# Altium footprint library SOT.PcbLib: 3 footprints
Each footprint in its own frame and in the unit in brackets; x right, y up, seen from the top. Pads: shape width x height; smd on the part's side, far side on the other; paste and mask are expansions set on the pad; w line width, h text height; cw(c..) or ccw(c..) is an arc to the next point about the centre after c.
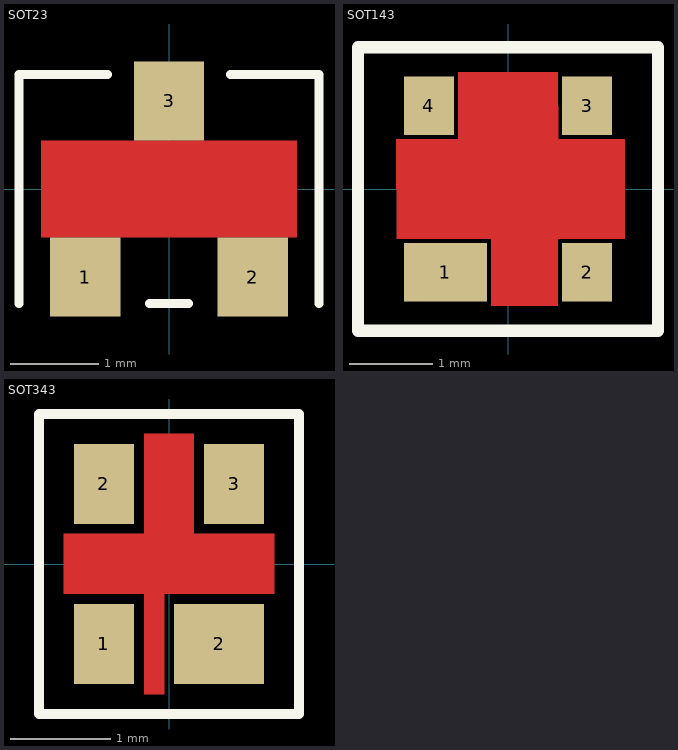
[diagram p0: the footprints below, top view; thin cyan lines are the x and y axes]

## SOT23 [mm]
pads (3):
  rect 0.8x0.9 smd: 1(-0.95,-1) 2(0.95,-1) 3(0,1)
Top Layer:
  pour cut-out: -1.45,0.55 1.45,0.55 1.45,-0.55 -1.45,-0.55
Top Overlay:
  lines w0.1: -1.704,-1.3 -1.704,1.3 -0.7,1.3 ; -0.225,-1.3 0,-1.3 0.225,-1.3 ; 0.7,1.3 1.704,1.3 1.704,-1.3
3D body "SOT23-3.step": height 1.1, standoff 0, extent -1.499,-1.25 1.499,1.25

## SOT143 [mm]
pads (4):
  rect 1x0.7 smd: 1(-0.75,-1)
  rect 0.6x0.7 smd: 2(0.95,-1) 3(0.95,1) 4(-0.95,1)
Top Layer:
  pour cut-out: -0.2,-0.6 -1.333,-0.6 -1.338,0.6 -0.6,0.6 -0.6,1.4 0.6,1.4 0.605,0.6 1.4,0.6 1.4,-0.6 0.6,-0.6 0.6,-1.4 -0.2,-1.4
Top Overlay:
  lines w0.15: -1.8,-1.7 -1.8,1.7 1.8,1.7 1.8,-1.7 -1.8,-1.7
3D body "SOT143B.step": height 0.96, standoff 0.01, extent -1.45,-1.151 1.45,1.25

## SOT343 [mm]
pads (4):
  rect 0.6x0.8 smd mask+0.09: 1(-0.65,-0.8)
  rect 0.6x0.8 smd: 2(-0.65,0.8) 3(0.65,0.8)
  rect 0.9x0.8 smd mask+0.09: 2(0.5,-0.8)
Top Layer:
  pour cut-out: -1.05,0.3 -0.25,0.3 -0.25,1.3 0.25,1.3 0.25,0.3 1.05,0.3 1.05,-0.3 -0.05,-0.3 -0.05,-1.3 -0.25,-1.3 -0.25,-0.3 -1.05,-0.3
Top Overlay:
  lines w0.1: -1.3,-1.5 -1.3,1.5 1.3,1.5 1.3,-1.5 -1.3,-1.5
3D body "SOT343.stp": height 0.95, standoff 0.02, extent -1,-1.1 1,1.1